# EAGLE library part LMZ10503 (library project)
3A SIMPLE SWITCHER® Power Module with 5.5V Maximum Input Voltage From the National Semiconductor Simple Switcher Series. Source: http://www.national.com/profile/snip.cgi/openDS=LMZ10503
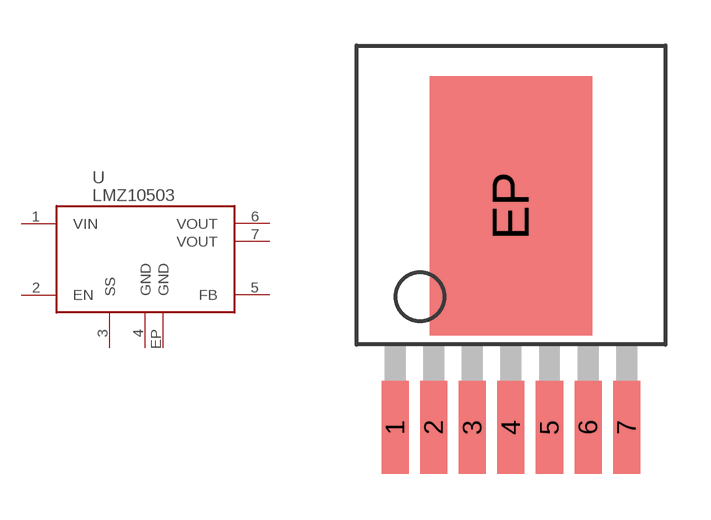
[diagram p10: symbol with the pads of TO-PMOD-7; footprint TO-PMOD-7]

Designator prefix U

## LMZ10503TZ-ADJ  [TO-PMOD-7]
1  VIN  pwr
2  EN  in
3  SS
4  GND  pwr
5  FB  in
6  VOUT  out
7  VOUT  pas
EP  GND  pwr

## Footprint TO-PMOD-7 (pad centres in mm)
National Switcher 7-pin housing Source: e.g. http://www.national.com/pf/LM/LMZ10503.html
smd 0.89 x 3.06: 1 -3.81,-7.305; 2 -2.54,-7.305; 3 -1.27,-7.305; 4 0,-7.305; 5 1.27,-7.305; 6 2.54,-7.305; 7 3.81,-7.305
smd 5.35 x 8.54: EP 0,0